# Altium footprint library FCI.PcbLib: 1 footprints
Each footprint in its own frame and in the unit in brackets; x right, y up, seen from the top. Pads: shape width x height; smd on the part's side, far side on the other; paste and mask are expansions set on the pad; w line width, h text height; cw(c..) or ccw(c..) is an arc to the next point about the centre after c.
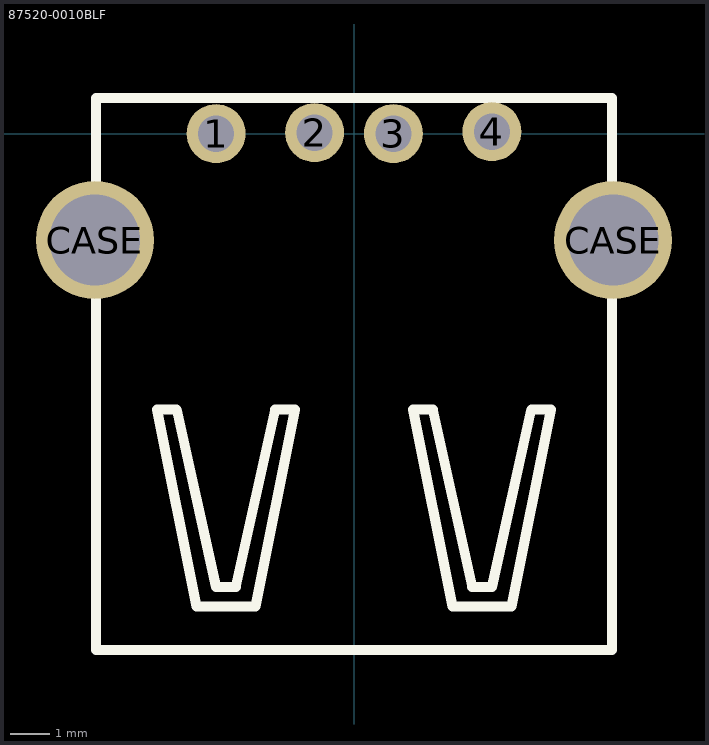
[diagram p0: the footprint, top view; thin cyan lines are the x and y axes]

## 87520-0010BLF [mm] "USB Type A Connector - PCB Mount Through Hole Right Angle"
height 7.7
pads (6):
  round 1.5 hole 0.92: 1(-3.5,0) 2(-1,0.025) 3(1,0) 4(3.5,0.05)
  round 3 hole 2.3: CASE(-6.575,-2.7) CASE(6.575,-2.7)
Top Overlay:
  lines w0.254: 6.552,0.898 6.55,-13.1 -6.55,-13.1 -6.55,0.9 6.552,0.9 ; -5,-7 -4,-12 -3.5,-12 -2.5,-12 -1.5,-7 -2,-7 -3,-11.5 -3.5,-11.5 -4.5,-7 -5,-7 ; 1.5,-7 2.5,-12 3.5,-12 4,-12 5,-7 4.5,-7 3.5,-11.5 3,-11.5 2,-7 1.5,-7
3D body: height 7.7, standoff 0, extent -6.5,-13 6.5,1